# Altium footprint library CKSR15NP.PcbLib: 1 footprints
Each footprint in its own frame and in the unit in brackets; x right, y up, seen from the top. Pads: shape width x height; smd on the part's side, far side on the other; paste and mask are expansions set on the pad; w line width, h text height; cw(c..) or ccw(c..) is an arc to the next point about the centre after c.
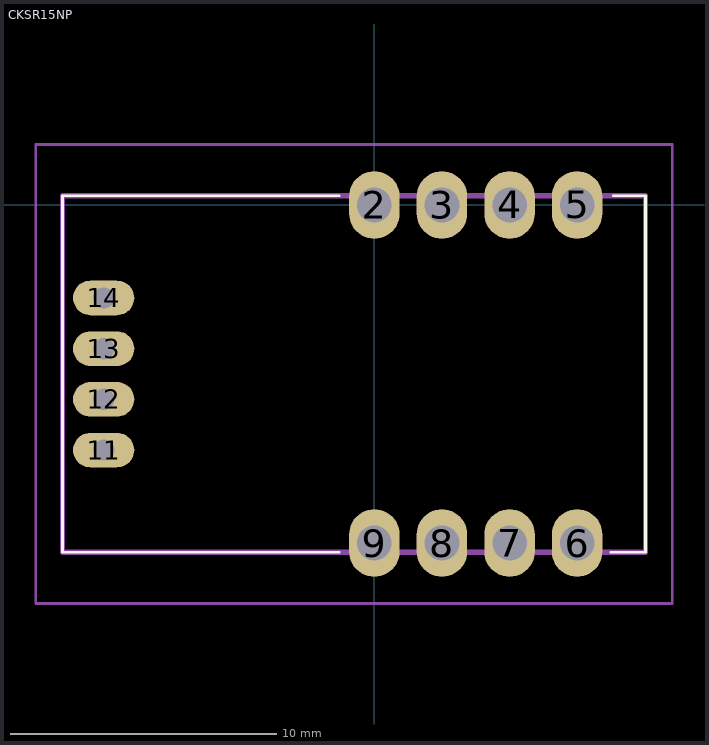
[diagram p0: the footprint, top view; thin cyan lines are the x and y axes]

## CKSR15NP [mm]
pads (12):
  oval 1.9x2.54 hole 1.3: 2(0,0) 3(2.54,0) 4(5.08,0) 5(7.62,0) 6(7.62,-12.7) 7(5.08,-12.7) 8(2.54,-12.7) 9(0,-12.7)
  oval 2.3x1.3 hole 0.8: 11(-10.17,-9.208) 12(-10.17,-7.303) 13(-10.17,-5.398) 14(-10.17,-3.493)
Top Overlay:
  lines w0.1: -1.32,-13.048 -11.72,-13.048 -11.72,0.352 -1.32,0.35 ; 8.88,-13.05 10.19,-13.05 10.19,0.35 8.98,0.35
Mechanical 15:
  lines w0.2: -11.72,-13.05 10.19,-13.05 10.19,0.35 -11.72,0.35 -11.72,-13.05
Mechanical 20:
  lines w0.1: -12.72,-14.97 11.19,-14.97 ; -12.72,-14.97 -12.72,2.27 ; -12.72,-14.97 11.19,-14.97 ; -12.72,-14.97 -12.72,2.27 ; -12.72,2.27 11.19,2.27 ; -12.72,2.27 11.19,2.27 ; 11.19,-14.97 11.19,2.27 ; 11.19,-14.97 11.19,2.27